# Altium schematic symbol library XT60PW-F.Schlib: 1 symbol
Pins are listed as number, name and electrical type; pins without a type are passive.

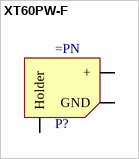
[diagram p0: symbol XT60PW-F]

## XT60PW-F
designator P?
pins: 1 +, 2 GND, 3 Holder